# Altium schematic symbol library Conn,Jack,TRS,3.5mm,Thru,Shielded.Schlib: 1 symbol
Pins are listed as number, name and electrical type; pins without a type are passive.

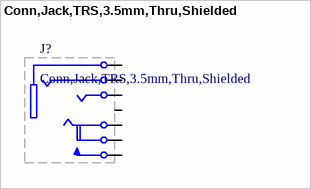
[diagram p0: symbol Conn,Jack,TRS,3.5mm,Thru,Shielded]

## Conn,Jack,TRS,3.5mm,Thru,Shielded
designator J?
3.50mm (0.141", 1/8", Mini Plug) - Headphone Phone Jack Stereo (4 Conductor, TRRS) Connector Solder
pins: 0 SH (power) "Sleeve (Ground)", 1 S (power) "Sleeve (Ground)", 2 T "Tip", 3 R1 "Tip", 4 R2 "Tip", 5 IR1 "Tip", 6 R1S "Tip"